# Altium footprint library Capacitor.PcbLib: 107 footprints (part 2 of 7)
Each footprint in its own frame and in the unit in brackets; x right, y up, seen from the top. Pads: shape width x height; smd on the part's side, far side on the other; paste and mask are expansions set on the pad; w line width, h text height; cw(c..) or ccw(c..) is an arc to the next point about the centre after c.
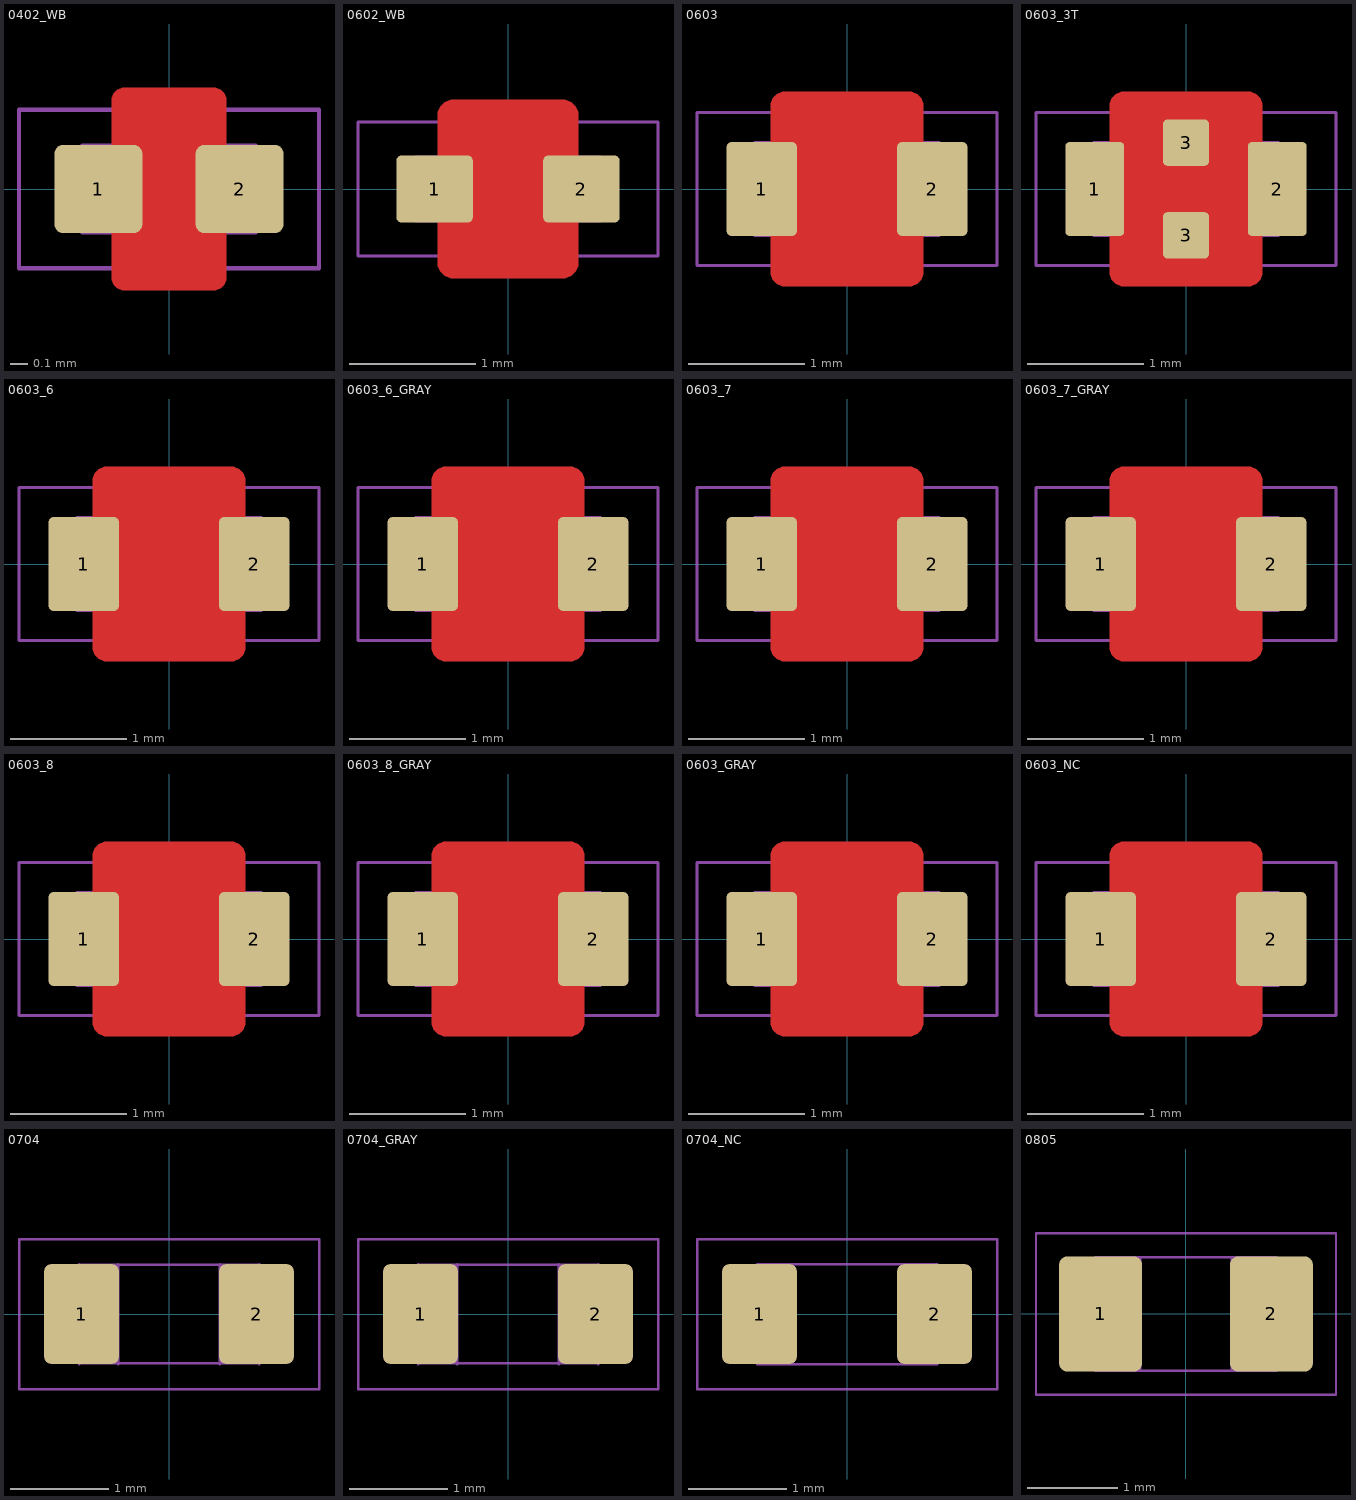
[diagram p1: the footprints below, top view; thin cyan lines are the x and y axes]

## 0402_WB [mil]
pads (2):
  rrect20% 20x20 smd mask+2: 1(-16,0) 2(16,0)
Top Layer:
  pour cut-out: 13,20 13,20.6 12.54,21.7 11.7,22.54 10.6,23 10,23 -10,23 -10.6,23 -11.7,22.54 -12.54,21.7 -13,20.6 -13,20 -13,-20 -13,-20.6 -12.54,-21.7 -11.7,-22.54 -10.6,-23 -10,-23 10,-23 10.6,-23 11.7,-22.54 12.54,-21.7 13,-20.6 13,-20
Top Solder:
  region: -8,18.1 -8,12 -17,12 -17,-12 -8,-12 -8,-18.1 8,-18.1 8,-12 17,-12 17,12 8,12 8,18.1
Top Designator:
  text ".Designator" at -72.94,-7.14 h20
Top Courtyard:
  lines w1: -34,-18 -34,18 34,18 34,-18 -34,-18
Top Component Outline:
  lines w1: -2.84,-9.84 -2.84,9.84 ; 2.84,-9.84 2.84,9.84 ; -19.68,-9.84 19.68,-9.84 19.68,9.84 -19.68,9.84 -19.68,-9.84
3D body: height 19.8, standoff 0.2, extent -19.68,-9.84 19.68,9.84
3D body: height 20, standoff 0, extent 2.84,-10 20,10
3D body: height 20, standoff 0, extent -20,-10 -2.84,10

## 0602_WB [mil]
pads (2):
  rrect15% 24x21 smd paste-1 mask+2: 1(-23,0) 2(23,0)
Top Layer:
  pour cut-out: -17,28 -17.99,28 -19.83,27.24 -21.24,25.83 -22,23.99 -22,23 -22,-23 -22,-23.99 -21.24,-25.83 -19.83,-27.24 -17.99,-28 -17,-28 17,-28 18,-28 19.83,-27.24 21.24,-25.83 22,-23.99 22,-23 22,23 22,24 21.24,25.83 19.83,27.24 17.99,28 17,28
Top Solder:
  rectangle: -16,-22 16,22
Top Designator:
  text ".Designator" at -127.64,-12.5 h35
Top Courtyard:
  lines w1: -47,-21 47,-21 47,21 -47,21 -47,-21
Top Component Outline:
  lines w1: -6,-10 -6,10 ; 6,-10 6,10 ; -29,-10 -29,10 29,10 29,-10 -29,-10
3D body: height 20, standoff 0, extent -29.5,-10.5 -5.5,10.5
3D body: height 20, standoff 0, extent 5.5,-10.5 29.5,10.5
3D body: height 19.5, standoff 0.2, extent -29,-10 29,10

## 0603 [mil]
height 19.68
pads (2):
  rrect15% 24x32 smd paste-1 mask+2: 1(-29,0) 2(29,0)
Top Layer:
  pour cut-out: -21,33 -21.99,33 -23.83,32.24 -25.24,30.83 -26,28.99 -26,28 -26,-28 -26,-28.99 -25.24,-30.83 -23.83,-32.24 -21.99,-33 -21,-33 21,-33 22,-33 23.83,-32.24 25.24,-30.83 26,-28.99 26,-28 26,28 26,28.99 25.24,30.83 23.83,32.24 22,33 21,33
Top Solder:
  region: 20,-18 20,18 -20,18 -20,-18
  rectangle: -12.5,-27 12.5,27
Top Courtyard:
  lines w1: -51,-26 51,-26 51,26 -51,26 -51,-26
Top Component Outline:
  lines w1: -17.72,-15.75 -17.72,15.75 ; 17.72,-15.75 17.72,15.75 ; -31.5,-15.75 -31.5,15.75 31.5,15.75 31.5,-15.75 -31.5,-15.75
3D body: height 19.68, standoff 0, extent 18,-16 32,16
3D body: height 19.68, standoff 0, extent -32,-16 -18,16
3D body: height 19, standoff 0.2, extent -31.5,-15.75 31.5,15.75

## 0603_3T [mil]
height 19.68
pads (4):
  rrect15% 20x32 smd paste-1 mask+2: 1(-31,0) 2(31,0)
  rrect20% 15.75x15.75 smd mask+2: 3(0,-15.75) 3(0,15.75)
Top Layer:
  pour cut-out: -21,33 -21.99,33 -23.83,32.24 -25.24,30.83 -26,28.99 -26,28 -26,-28 -26,-28.99 -25.24,-30.83 -23.83,-32.24 -21.99,-33 -21,-33 21,-33 22,-33 23.83,-32.24 25.24,-30.83 26,-28.99 26,-28 26,28 26,28.99 25.24,30.83 23.83,32.24 22,33 21,33
Top Solder:
  region: 22,18 8,25 -8,25 -22,18 -22,-18 -8,-25 8,-25 22,-18
Top Designator:
  text ".Designator" at -127.64,-12.5 h35
Top Courtyard:
  lines w1: -51,-26 -51,26 51,26 51,-26 -51,-26
Top Component Outline:
  lines w1: -21.65,-15.75 -21.65,15.75 ; -8,-16.25 cw(c-0.25,-16.25) -0.25,-8.5 0,-8.5 0.25,-8.5 cw(c0.25,-16.25) 8,-16.25 ; -8,16.25 ccw(c-0.25,16.25) -0.25,8.5 0,8.5 0.25,8.5 ccw(c0.25,16.25) 8,16.25 ; 21.65,-15.75 21.65,15.75 ; -31.5,-15.75 31.5,-15.75 31.5,15.75 -31.5,15.75 -31.5,-15.75
3D body: height 19.68, standoff 0, extent -8,-16.25 8,-8.5
3D body: height 19, standoff 0.2, extent -31.5,-15.75 31.5,15.75
3D body: height 19.68, standoff 0, extent 21.65,-16 32,16
3D body: height 19.68, standoff 0, extent -32,-16 -21.65,16
3D body: height 19.68, standoff 0, extent -8,8.5 8,16.25

## 0603_6 [mil]
height 23.62
pads (2):
  rrect15% 24x32 smd paste-1 mask+2: 1(-29,0) 2(29,0)
Top Layer:
  pour cut-out: -21,33 -21.99,33 -23.83,32.24 -25.24,30.83 -26,28.99 -26,28 -26,-28 -26,-28.99 -25.24,-30.83 -23.83,-32.24 -21.99,-33 -21,-33 21,-33 22,-33 23.83,-32.24 25.24,-30.83 26,-28.99 26,-28 26,28 26,28.99 25.24,30.83 23.83,32.24 22,33 21,33
Top Solder:
  region: 20,-18 20,18 -20,18 -20,-18
  rectangle: -12.5,-27 12.5,27
Top Courtyard:
  lines w1: -51,-26 51,-26 51,26 -51,26 -51,-26
Top Component Outline:
  lines w1: -17.72,-15.75 -17.72,15.75 ; 17.72,-15.75 17.72,15.75 ; -31.5,-15.75 -31.5,15.75 31.5,15.75 31.5,-15.75 -31.5,-15.75
3D body: height 23.62, standoff 0, extent 18,-16 32,16
3D body: height 23.62, standoff 0, extent -32,-16 -18,16
3D body: height 23, standoff 0.2, extent -31.5,-15.75 31.5,15.75

## 0603_6_GRAY [mil]
height 23.62
pads (2):
  rrect15% 24x32 smd paste-1 mask+2: 1(-29,0) 2(29,0)
Top Layer:
  pour cut-out: -21,33 -21.99,33 -23.83,32.24 -25.24,30.83 -26,28.99 -26,28 -26,-28 -26,-28.99 -25.24,-30.83 -23.83,-32.24 -21.99,-33 -21,-33 21,-33 22,-33 23.83,-32.24 25.24,-30.83 26,-28.99 26,-28 26,28 26,28.99 25.24,30.83 23.83,32.24 22,33 21,33
Top Solder:
  region: 20,-18 20,18 -20,18 -20,-18
  rectangle: -12.5,-27 12.5,27
Top Courtyard:
  lines w1: -51,-26 51,-26 51,26 -51,26 -51,-26
Top Component Outline:
  lines w1: -17.72,-15.75 -17.72,15.75 ; 17.72,-15.75 17.72,15.75 ; -31.5,-15.75 -31.5,15.75 31.5,15.75 31.5,-15.75 -31.5,-15.75
3D body: height 23.62, standoff 0, extent 18,-16 32,16
3D body: height 23.62, standoff 0, extent -32,-16 -18,16
3D body: height 23, standoff 0.2, extent -31.5,-15.75 31.5,15.75

## 0603_7 [mil]
height 27.56
pads (2):
  rrect15% 24x32 smd paste-1 mask+2: 1(-29,0) 2(29,0)
Top Layer:
  pour cut-out: -21,33 -21.99,33 -23.83,32.24 -25.24,30.83 -26,28.99 -26,28 -26,-28 -26,-28.99 -25.24,-30.83 -23.83,-32.24 -21.99,-33 -21,-33 21,-33 22,-33 23.83,-32.24 25.24,-30.83 26,-28.99 26,-28 26,28 26,28.99 25.24,30.83 23.83,32.24 22,33 21,33
Top Solder:
  region: 20,-18 20,18 -20,18 -20,-18
  rectangle: -12.5,-27 12.5,27
Top Courtyard:
  lines w1: -51,-26 -51,26 51,26 51,-26 -51,-26
Top Component Outline:
  lines w1: -17.72,-15.75 -17.72,15.75 ; 17.72,-15.75 17.72,15.75 ; -31.5,-15.75 31.5,-15.75 31.5,15.75 -31.5,15.75 -31.5,-15.75
3D body: height 27, standoff 0.2, extent -31.5,-15.75 31.5,15.75
3D body: height 27.56, standoff 0, extent -32,-16 -18,16
3D body: height 27.56, standoff 0, extent 18,-16 32,16

## 0603_7_GRAY [mil]
height 27.56
pads (2):
  rrect15% 24x32 smd paste-1 mask+2: 1(-29,0) 2(29,0)
Top Layer:
  pour cut-out: -21,33 -21.99,33 -23.83,32.24 -25.24,30.83 -26,28.99 -26,28 -26,-28 -26,-28.99 -25.24,-30.83 -23.83,-32.24 -21.99,-33 -21,-33 21,-33 22,-33 23.83,-32.24 25.24,-30.83 26,-28.99 26,-28 26,28 26,28.99 25.24,30.83 23.83,32.24 22,33 21,33
Top Solder:
  rectangle: -12.5,-27 12.5,27
  region: 20,-18 20,18 -20,18 -20,-18
Top Courtyard:
  lines w1: -51,-26 51,-26 51,26 -51,26 -51,-26
Top Component Outline:
  lines w1: -17.72,-15.75 -17.72,15.75 ; 17.72,-15.75 17.72,15.75 ; -31.5,-15.75 -31.5,15.75 31.5,15.75 31.5,-15.75 -31.5,-15.75
3D body: height 27.56, standoff 0, extent 18,-16 32,16
3D body: height 27.56, standoff 0, extent -32,-16 -18,16
3D body: height 27, standoff 0.2, extent -31.5,-15.75 31.5,15.75

## 0603_8 [mil]
height 31.5
pads (2):
  rrect15% 24x32 smd paste-1 mask+2: 1(-29,0) 2(29,0)
Top Layer:
  pour cut-out: -21,33 -21.99,33 -23.83,32.24 -25.24,30.83 -26,28.99 -26,28 -26,-28 -26,-28.99 -25.24,-30.83 -23.83,-32.24 -21.99,-33 -21,-33 21,-33 22,-33 23.83,-32.24 25.24,-30.83 26,-28.99 26,-28 26,28 26,28.99 25.24,30.83 23.83,32.24 22,33 21,33
Top Solder:
  region: 20,-18 20,18 -20,18 -20,-18
  rectangle: -12.5,-27 12.5,27
Top Courtyard:
  lines w1: -51,-26 51,-26 51,26 -51,26 -51,-26
Top Component Outline:
  lines w1: -17.72,-15.75 -17.72,15.75 ; 17.72,-15.75 17.72,15.75 ; -31.5,-15.75 -31.5,15.75 31.5,15.75 31.5,-15.75 -31.5,-15.75
3D body: height 32, standoff 0, extent 18,-16 32,16
3D body: height 32, standoff 0, extent -32,-16 -18,16
3D body: height 31.5, standoff 0.2, extent -31.5,-15.75 31.5,15.75

## 0603_8_GRAY [mil]
height 31.5
pads (2):
  rrect15% 24x32 smd paste-1 mask+2: 1(-29,0) 2(29,0)
Top Layer:
  pour cut-out: -21,33 -21.99,33 -23.83,32.24 -25.24,30.83 -26,28.99 -26,28 -26,-28 -26,-28.99 -25.24,-30.83 -23.83,-32.24 -21.99,-33 -21,-33 21,-33 22,-33 23.83,-32.24 25.24,-30.83 26,-28.99 26,-28 26,28 26,28.99 25.24,30.83 23.83,32.24 22,33 21,33
Top Solder:
  rectangle: -12.5,-27 12.5,27
  region: 20,-18 20,18 -20,18 -20,-18
Top Courtyard:
  lines w1: -51,-26 51,-26 51,26 -51,26 -51,-26
Top Component Outline:
  lines w1: -17.72,-15.75 -17.72,15.75 ; 17.72,-15.75 17.72,15.75 ; -31.5,-15.75 -31.5,15.75 31.5,15.75 31.5,-15.75 -31.5,-15.75
3D body: height 32, standoff 0, extent 18,-16 32,16
3D body: height 32, standoff 0, extent -32,-16 -18,16
3D body: height 31.5, standoff 0.2, extent -31.5,-15.75 31.5,15.75

## 0603_GRAY [mil]
height 19.68
pads (2):
  rrect15% 24x32 smd paste-1 mask+2: 1(-29,0) 2(29,0)
Top Layer:
  pour cut-out: -21,33 -21.99,33 -23.83,32.24 -25.24,30.83 -26,28.99 -26,28 -26,-28 -26,-28.99 -25.24,-30.83 -23.83,-32.24 -21.99,-33 -21,-33 21,-33 22,-33 23.83,-32.24 25.24,-30.83 26,-28.99 26,-28 26,28 26,28.99 25.24,30.83 23.83,32.24 22,33 21,33
Top Solder:
  rectangle: -12.5,-27 12.5,27
  region: 20,-18 20,18 -20,18 -20,-18
Top Courtyard:
  lines w1: -51,-26 51,-26 51,26 -51,26 -51,-26
Top Component Outline:
  lines w1: -17.72,-15.75 -17.72,15.75 ; 17.72,-15.75 17.72,15.75 ; -31.5,-15.75 -31.5,15.75 31.5,15.75 31.5,-15.75 -31.5,-15.75
3D body: height 19.68, standoff 0, extent 18,-16 32,16
3D body: height 19.68, standoff 0, extent -32,-16 -18,16
3D body: height 19, standoff 0.2, extent -31.5,-15.75 31.5,15.75

## 0603_NC [mil]
height 31.5
pads (2):
  rrect15% 24x32 smd paste-1 mask+2: 1(-29,0) 2(29,0)
Top Layer:
  pour cut-out: -21,33 -21.99,33 -23.83,32.24 -25.24,30.83 -26,28.99 -26,28 -26,-28 -26,-28.99 -25.24,-30.83 -23.83,-32.24 -21.99,-33 -21,-33 21,-33 22,-33 23.83,-32.24 25.24,-30.83 26,-28.99 26,-28 26,28 26,28.99 25.24,30.83 23.83,32.24 22,33 21,33
Top Solder:
  rectangle: -12.5,-27 12.5,27
  region: 20,-18 20,18 -20,18 -20,-18
Top Courtyard:
  lines w1: -51,-26 51,-26 51,26 -51,26 -51,-26
Top Component Outline:
  lines w1: -17.72,-15.75 -17.72,15.75 ; 17.72,-15.75 17.72,15.75 ; -31.5,-15.75 -31.5,15.75 31.5,15.75 31.5,-15.75 -31.5,-15.75
3D body: height 1, standoff 0, extent -31.5,-15.75 31.5,15.75

## 0704 [mil]
height 27.56
pads (2):
  rrect20% 30x40 smd paste-3 mask+2: 1(-35,0) 2(35,0)
Top Designator:
  text ".Designator" at -127.64,-12.5 h35
Top Courtyard:
  lines w1: -60,-30 -60,30 60,30 60,-30 -60,-30
Top Component Outline:
  lines w1: -36,-20 -36,20 ; -35.43,-19.68 35.43,-19.68 ; -35.43,19.68 35.43,19.68 ; -20.25,-20 -20.25,20 ; 20.25,-20 20.25,20 ; 36,-20 36,20
3D body: height 25.5, standoff 0, extent 20.25,-20 36,20
3D body: height 25, standoff 1, extent -35.43,-19.68 35.43,19.68
3D body: height 25.5, standoff 0, extent -36,-20 -20.25,20

## 0704_GRAY [mil]
height 27.56
pads (2):
  rrect20% 30x40 smd paste-3 mask+2: 1(-35,0) 2(35,0)
Top Designator:
  text ".Designator" at -127.64,-12.5 h35
Top Courtyard:
  lines w1: -60,-30 60,-30 60,30 -60,30 -60,-30
Top Component Outline:
  lines w1: -36,-20 -36,20 ; -35.43,-19.68 35.43,-19.68 ; -35.43,19.68 35.43,19.68 ; -20.25,-20 -20.25,20 ; 20.25,-20 20.25,20 ; 36,-20 36,20
3D body: height 25.5, standoff 0, extent -36,-20 -20.25,20
3D body: height 25, standoff 1, extent -35.43,-19.68 35.43,19.68
3D body: height 25.5, standoff 0, extent 20.25,-20 36,20

## 0704_NC [mil]
height 27.56
pads (2):
  rrect20% 30x40 smd paste-3 mask+2: 1(-35,0) 2(35,0)
Top Designator:
  text ".Designator" at -127.64,-12.5 h35
Top Courtyard:
  lines w1: -60,-30 -60,30 60,30 60,-30 -60,-30
Top Component Outline:
  lines w1: -36,-20 36,-20 36,20 -36,20 -36,-20
3D body: height 1, standoff 0, extent -36,-20 36,20

## 0805 [mil]
height 23.62
pads (2):
  rrect20% 36x50 smd paste-3 mask+2: 1(-37,0) 2(37,0)
Top Designator:
  text ".Designator" at -127.64,-12.5 h35
Top Courtyard:
  lines w1: -65,-35 65,-35 65,35 -65,35 -65,-35
Top Component Outline:
  lines w1: -19.68,-24.61 -19.68,24.61 ; 19.68,-24.61 19.68,24.61 ; -39.37,-24.61 39.37,-24.61 39.37,24.61 -39.37,24.61 -39.37,-24.61
3D body: height 23.62, standoff 0, extent 19.68,-24.61 39.37,24.61
3D body: height 23, standoff 1, extent -39,-24 39,24
3D body: height 23.62, standoff 0, extent -39.37,-24.61 -19.68,24.61